# EAGLE library part SR1X12B (library divers)
Rotary Switch 1*12 12 separate contacts on each side The dot in the symbol denotes the leftmost contact of the rotary switch (counterclockwise limit)
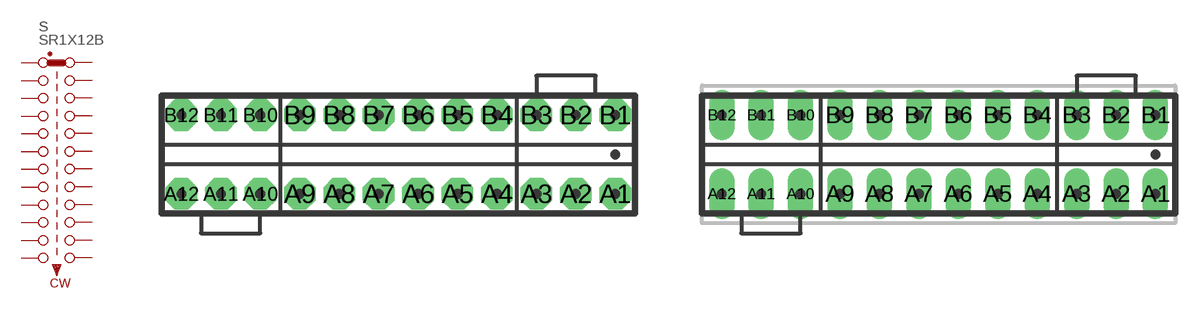
[diagram p16: symbol with the pads of SR1X12BN; footprints SR1X12BN, SR1X12BL]

Designator prefix S

## SR1X12B  [SR1X12BN]
A1  A1
A2  A2
A3  A3
A4  A4
A5  A5
A6  A6
A7  A7
A8  A8
A9  A9
A10  A10
A11  A11
A12  A12
B1  B1
B2  B2
B3  B3
B4  B4
B5  B5
B6  B6
B7  B7
B8  B8
B9  B9
B10  B10
B11  B11
B12  B12

## SR1X12BN  [SR1X12BN]
Pads as for SR1X12BN

## SR1X12BL  [SR1X12BL]
Pads as for SR1X12BN

## Footprint SR1X12BN (pad centres in mm)
Rotary Switch 1*12 - 2*6 - 3*4 - 4*3 - ELMA Typ 8
drill 1.092 pad 2.032 octagon: A1 13.97,-2.54; A2 11.43,-2.54; A3 8.89,-2.54; A4 6.35,-2.54; A5 3.81,-2.54; A6 1.27,-2.54; A7 -1.27,-2.54; A8 -3.81,-2.54; A9 -6.35,-2.54; A10 -8.89,-2.54; A11 -11.43,-2.54; A12 -13.97,-2.54; B1 13.97,2.54; B2 11.43,2.54; B3 8.89,2.54; B4 6.35,2.54; B5 3.81,2.54; B6 1.27,2.54; B7 -1.27,2.54; B8 -3.81,2.54; B9 -6.35,2.54; B10 -8.89,2.54; B11 -11.43,2.54; B12 -13.97,2.54

## Footprint SR1X12BL (pad centres in mm)
Rotary Switch 1*12 - 2*6 - 3*4 - 4*3, long pads - ELMA Typ 8
drill 1.092 pad 1.397 long: A1 13.97,-2.54; A2 11.43,-2.54; A3 8.89,-2.54; A4 6.35,-2.54; A5 3.81,-2.54; A6 1.27,-2.54; A7 -1.27,-2.54; A8 -3.81,-2.54; A9 -6.35,-2.54; A10 -8.89,-2.54; A11 -11.43,-2.54; A12 -13.97,-2.54; B1 13.97,2.54; B2 11.43,2.54; B3 8.89,2.54; B4 6.35,2.54; B5 3.81,2.54; B6 1.27,2.54; B7 -1.27,2.54; B8 -3.81,2.54; B9 -6.35,2.54; B10 -8.89,2.54; B11 -11.43,2.54; B12 -13.97,2.54